# Altium footprint library NXE2S0505MC-R7.PcbLib: 3 footprints
Each footprint in its own frame and in the unit in brackets; x right, y up, seen from the top. Pads: shape width x height; smd on the part's side, far side on the other; paste and mask are expansions set on the pad; w line width, h text height; cw(c..) or ccw(c..) is an arc to the next point about the centre after c.
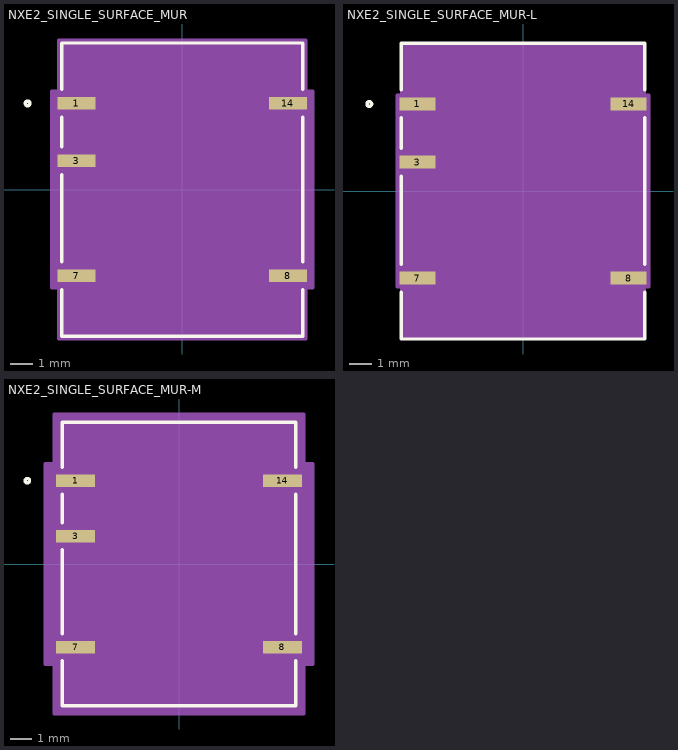
[diagram p0: the footprints below, top view; thin cyan lines are the x and y axes]

## NXE2_SINGLE_SURFACE_MUR [mil]
pads (5):
  rect 66x22 smd paste+0 mask+0: 1(-184,150) 3(-184,50) 7(-184,-150) 8(184,-150) 14(184,150)
Top Overlay:
  circle w6: c-269,150 r4
  lines w6: -210,-174.1 -210,-255 210,-255 210,-174.1 ; -210,-125.9 -210,25.9 ; -210,74.1 -210,125.9 ; -210,174.1 -210,255 210,255 210,174.1 ; 210,-125.9 210,125.9
Mechanical 13:
  circle w0: c-151,150 r3
  lines w0: -12,250 ccw(c0,250) 12,250
  lines w1: -205,-250 205,-250 205,250 -205,250 -205,-250
Mechanical 15:
  region: -215,-171 -227,-171 -227,171 -215,171 -215,260 215,260 215,171 227,171 227,-171 215,-171 215,-260 -215,-260
  lines w6: -227,-171 -227,171 -215,171 -215,260 215,260 215,171 227,171 227,-171 215,-171 215,-260 -215,-260 -215,-171 -227,-171
3D body "NXE2_SINGLE_SURFACE_MUR.step": height 190.12, standoff 0, extent -205,-250 205,250

## NXE2_SINGLE_SURFACE_MUR-L [mil]
pads (5):
  rect 62x22 smd paste+0 mask+0: 1(-182,150) 3(-182,50) 7(-182,-150) 8(182,-150) 14(182,150)
Top Overlay:
  circle w6: c-265,150 r4
  lines w6: -210,-174.1 -210,-255 210,-255 210,-174.1 ; -210,-125.9 -210,25.9 ; -210,74.1 -210,125.9 ; -210,174.1 -210,255 210,255 210,174.1 ; 210,-125.9 210,125.9
Mechanical 13:
  circle w0: c-151,150 r3
  lines w0: -12,250 ccw(c0,250) 12,250
  lines w1: -205,-250 205,-250 205,250 -205,250 -205,-250
Mechanical 15:
  region: -209,-165 -217,-165 -217,165 -209,165 -209,254 209,254 209,165 217,165 217,-165 209,-165 209,-254 -209,-254
  lines w6: -217,-165 -217,165 -209,165 -209,254 209,254 209,165 217,165 217,-165 209,-165 209,-254 -209,-254 -209,-165 -217,-165
3D body "NXE2_SINGLE_SURFACE_MUR.step": height 190.12, standoff 0, extent -205,-250 205,250

## NXE2_SINGLE_SURFACE_MUR-M [mil]
pads (5):
  rect 70x22 smd paste+0 mask+0: 1(-186,150) 3(-186,50) 7(-186,-150) 8(186,-150) 14(186,150)
Top Overlay:
  circle w6: c-273,150 r4
  lines w6: -210,-174.1 -210,-255 210,-255 210,-174.1 ; -210,-125.9 -210,25.9 ; -210,74.1 -210,125.9 ; -210,174.1 -210,255 210,255 210,174.1 ; 210,-125.9 210,125.9
Mechanical 13:
  circle w0: c-151,150 r3
  lines w0: -12,250 ccw(c0,250) 12,250
  lines w1: -205,-250 205,-250 205,250 -205,250 -205,-250
Mechanical 15:
  region: -225,-181 -241,-181 -241,181 -225,181 -225,270 225,270 225,181 241,181 241,-181 225,-181 225,-270 -225,-270
  lines w6: -241,-181 -241,181 -225,181 -225,270 225,270 225,181 241,181 241,-181 225,-181 225,-270 -225,-270 -225,-181 -241,-181
3D body "NXE2_SINGLE_SURFACE_MUR.step": height 190.12, standoff 0, extent -205,-250 205,250